# Altium schematic symbol library CAN Tranceiver.SchLib: 2 symbols
Pins are listed as number, name and electrical type; pins without a type are passive.

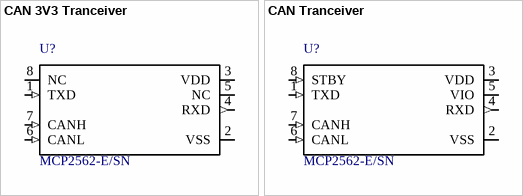
[diagram p0: symbols CAN 3V3 Tranceiver to CAN Tranceiver]

## CAN 3V3 Tranceiver
designator U?, comment MCP2562-E/SN
Microchip MCP2562-E/SN, CAN Transceiver 1MBps 1-channel IEC 61000-4-2, 8-Pin SOIC; Price: None; MF: Microchip; SnapEDA_Link: https://www.snapeda.com/parts/MCP2562-E/SN/Microchip/view-part/?ref=snap; MP: MCP2562-E/SN; Availability: Unavailable; Package: SO-8 Microchip; Value: *; ComponentLink1Description: Digi-Key_Purchase_URL; ComponentLink1URL: https://www.digikey.com/en/products/detail/texas-instruments/TCAN332DR/5823573; ComponentLink2Description: Datasheet_Link; ComponentLink2URL: http://www.ti.com/general/docs/suppproductinfo.tsp?distId=10&gotoUrl=http%3A%2F%2Fwww.ti.com%2Flit%2Fgpn%2Ftcan332; Digi-Key_Part_Number: 296-43711-1-ND
footprint SOIC127P600X175-8N
pins: 1 TXD (in), 2 VSS (power), 3 VDD (power), 4 RXD (out), 5 NC, 6 CANL (in), 7 CANH (in), 8 NC

## CAN Tranceiver
designator U?, comment MCP2562-E/SN
Microchip MCP2562-E/SN, CAN Transceiver 1MBps 1-channel IEC 61000-4-2, 8-Pin SOIC; Price: None; MF: Microchip; SnapEDA_Link: https://www.snapeda.com/parts/MCP2562-E/SN/Microchip/view-part/?ref=snap; MP: MCP2562-E/SN; Availability: Unavailable; Package: SO-8 Microchip; Value: *; Digi-Key_Part_Number: MCP2562T-E/SNCT-ND; ComponentLink1Description: Digi-Key_Purchase_URL; ComponentLink1URL: https://www.digikey.com/en/products/detail/microchip-technology/MCP2562T-E-SN/5011025; ComponentLink2Description: Datasheet_Link; ComponentLink2URL: http://www.microchip.com/mymicrochip/filehandler.aspx?ddocname=en561044
footprint SOIC127P600X175-8N
pins: 1 TXD (in), 2 VSS (power), 3 VDD (power), 4 RXD (out), 5 VIO (power), 6 CANL (in), 7 CANH (in), 8 STBY (in)